# Altium schematic symbol library MasterLib.SchLib: 162 symbols (part 2 of 2)
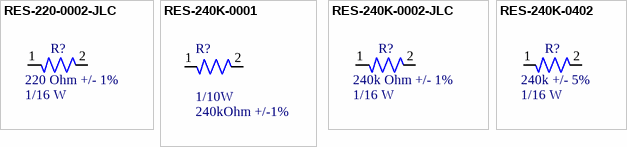
[diagram p5: symbols RES-220-0002-JLC to RES-240K-0402]

## RES-220-0002-JLC
designator R?, comment Resistance: 220 Ohm +/- 1%  Power: 1/16 W  (hidden comment: RM04FTN2200)
62.5mW Thick Film Resistors 50V ±100ppm/℃ ±1% -55℃~+155℃ 220Ω 0402  Chip Resistor - Surface Mount ROHS; assembled?: yes; JLC part number: C160487
footprint RES-0402
pins: 1, 2

## RES-240K-0001
designator R?, comment Power Rating: 1/10W  Resistance: 240kOhm +/-1%  (hidden comment: RC0603FR-07240KL)
240k Ohms ±1% 0.1W, 1/10W Chip Resistor 0603 (1608 Metric) Moisture Resistant Thick Film; Manufacturer: YAGEO; Assembled?: no; Manufacturer Part Number: RC0603FR-07240KL; Package Size: 0603
footprint RES-0603
pins: 1, 2

## RES-240K-0002-JLC
designator R?, comment Resistance: 240k Ohm +/- 1%  Power: 1/16 W  (hidden comment: 0402WGF2403TCE)
62.5mW Thick Film Resistors 50V ±100ppm/℃ ±1% -55℃~+155℃ 240kΩ 0402  Chip Resistor - Surface Mount ROHS; assembled?: yes; JLC part number: C64043
footprint RES-0402
pins: 1, 2

## RES-240K-0402
designator R?, comment Res: 240k +/- 5%  Power: 1/16 W  (hidden comment: RC1005J244CS)
240 kOhms ±5% 0.063W, 1/16W Chip Resistor 0402 (1005 Metric) Moisture Resistant Thick Film
footprint RES-0402
footprint CAP-10U-0004 (Footprint not found)
pins: 1, 2